# Altium footprint library B105connectors.PcbLib: 21 footprints (part 2 of 2)
Each footprint in its own frame and in the unit in brackets; x right, y up, seen from the top. Pads: shape width x height; smd on the part's side, far side on the other; paste and mask are expansions set on the pad; w line width, h text height; cw(c..) or ccw(c..) is an arc to the next point about the centre after c.
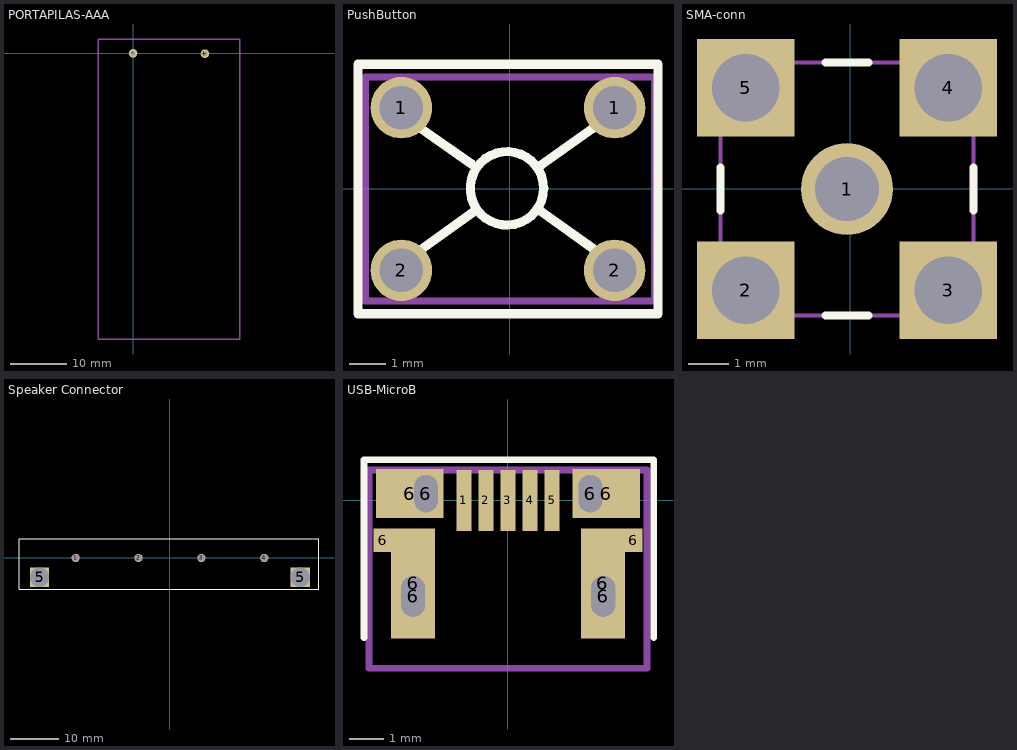
[diagram p1: the footprints below, top view; thin cyan lines are the x and y axes]

## PORTAPILAS-AAA [mil]
pads (2):
  round 60 hole 30: +(500,-2) -(0,0)
Mechanical 1:
  lines w10: -242,-1986 742,-1986 742,100 -242,100 -242,-1986

## PushButton [mm]
pads (4):
  round 1.7 hole 1.2: 1(-3,2.25) 1(2.9,2.25) 2(-3,-2.25) 2(2.9,-2.25)
Top Overlay:
  circle w0.254: c-0.079,0.018 r1.016
  lines w0.254: -2.492,1.694 -1.044,0.678 ; -2.467,-1.684 -1.019,-0.642 ; 0.861,-0.617 2.283,-1.633 ; 0.861,0.653 2.283,1.669 ; -4.2,-3.45 -4.2,3.45 4.1,3.45 4.1,-3.45 -4.2,-3.45
Mechanical 13:
  lines w0.2: -4,-3.1 4,-3.1 4,3.1 -4,3.1 -4,-3.1
3D body: height 4, standoff -3.56, extent -3.96,-3.1 3.96,3.1

## SMA-conn [mm]
pads (5):
  round 2.3 hole 1.6: 1(-0.077,-0.006)
  rect 2.44x2.44 hole 1.7: 2(-2.617,-2.546) 3(2.463,-2.546) 4(2.463,2.534) 5(-2.617,2.534)
Top Overlay:
  lines w0.2: -3.252,-0.546 -3.252,0.534 ; -0.617,-3.181 0.463,-3.181 ; -0.617,3.169 0.463,3.169 ; 3.098,-0.546 3.098,0.534
Mechanical 13:
  lines w0.1: -3.252,-3.181 3.098,-3.181 3.098,3.169 -3.252,3.169 -3.252,-3.181
3D body: height 9.53, standoff -3.94, extent -3.577,-3.506 3.423,3.494

## Speaker Connector [mm]
pads (6):
  round 1.7 hole 1.5: 1(-19.5,0) 2(-6.5,0) 3(6.5,0) 4(19.5,0)
  rect 4x4 hole 4 square: 5(-26.95,-4) 5(26.95,-4)
Top Overlay:
  lines w0.2: -31.2,-6.5 -31.2,4 30.8,4 30.8,-6.5 -31.2,-6.5

## USB-MicroB [mm]
pads (15):
  rect 0.45x1.8 smd: 1(-1.3,0) 2(-0.65,0) 3(0,0) 4(0.65,0) 5(1.3,0)
  rect 0.55x0.7 smd: 6(-3.7,-1.175) 6(3.7,-1.175)
  rect 2x1.45 smd: 6(-2.9,0.2) 6(2.9,0.2)
  oval 0.8x1.3 hole 0.7 slot 1.2 at 90 deg: 6(-2.8,-2.83) 6(2.81,-2.83)
  rect 1.3x3.25 smd: 6(-2.8,-2.45) 6(2.8,-2.45)
  oval 0.8x1.2 hole 0.7 slot 1.1 at 90 deg: 6(-2.42,0.2) 6(2.43,0.2)
Top Overlay:
  lines w0.2: -4.25,-4.05 -4.25,1.2 4.25,1.2 ; 4.3,-4.05 4.3,1.2
Mechanical 13:
  lines w0.2: -4.1,-4.95 4.1,-4.95 4.1,0.9 -4.1,0.9 -4.1,-4.95
3D body: height 2.68, standoff -0.63, extent -4.1,-4.95 4.1,0.48